# EAGLE library part MCP73871-2CCI_ML (library MCP73871-2CCI_ML)
Li-Ion Charger USB/DC 4.2V TE LBO QFN20 Source: Datasheet <https://datasheet.datasheetarchive.com/originals/distributors/Datasheets-DGA15/728881.pdf>
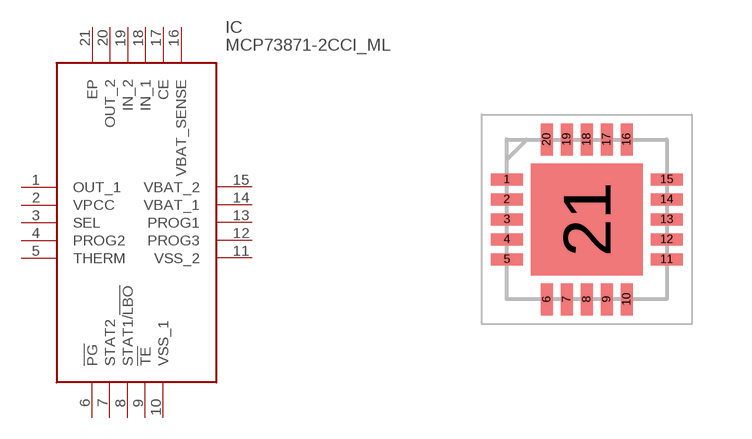
[diagram p0: symbol with the pads of QFN50P400X400X100-21N; footprint QFN50P400X400X100-21N]

Designator prefix IC

## MCP73871-2CCI_ML (Arrow_Part_Number: MCP73871-2CCI/ML; Arrow_Price-Stock: https://www.arrow.com/en/products/mcp73871-2cciml/microchip-technology?utm_currency=USD&region=europe; Description: Li-Ion Charger USB/DC 4.2V TE LBO QFN20; Height: 1mm; Manufacturer_Name: Microchip; Manufacturer_Part_Number: MCP73871-2CCI/ML; Mouser_Part_Number: 579-MCP73871-2CCI/ML; Mouser_Price-Stock: https://www.mouser.co.uk/ProductDetail/Microchip-Technology/MCP73871-2CCI-ML?qs=qXsUupcbpXyQfJ2clznZxw%3D%3D)  [QFN50P400X400X100-21N]
1  OUT_1
2  VPCC
3  SEL
4  PROG2
5  THERM
6  !PG
7  STAT2
8  STAT1/!LBO
9  !TE
10  VSS_1
11  VSS_2
12  PROG3
13  PROG1
14  VBAT_1
15  VBAT_2
16  VBAT_SENSE
17  CE
18  IN_1
19  IN_2
20  OUT_2
21  EP

## Footprint QFN50P400X400X100-21N (pad centres in mm)
(ML) 20-Lead QFN
smd 0.8 x 0.3: 1 -2,1; 2 -2,0.5; 3 -2,0; 4 -2,-0.5; 5 -2,-1; 11 2,-1; 12 2,-0.5; 13 2,0; 14 2,0.5; 15 2,1
smd 0.3 x 0.8: 6 -1,-2; 7 -0.5,-2; 8 0,-2; 9 0.5,-2; 10 1,-2; 16 1,2; 17 0.5,2; 18 0,2; 19 -0.5,2; 20 -1,2
smd 2.8 x 2.8: 21 0,0